# Altium schematic symbol library SparkFun-LED.SCHLIB: 53 symbols
Pins are listed as number, name and electrical type; pins without a type are passive.

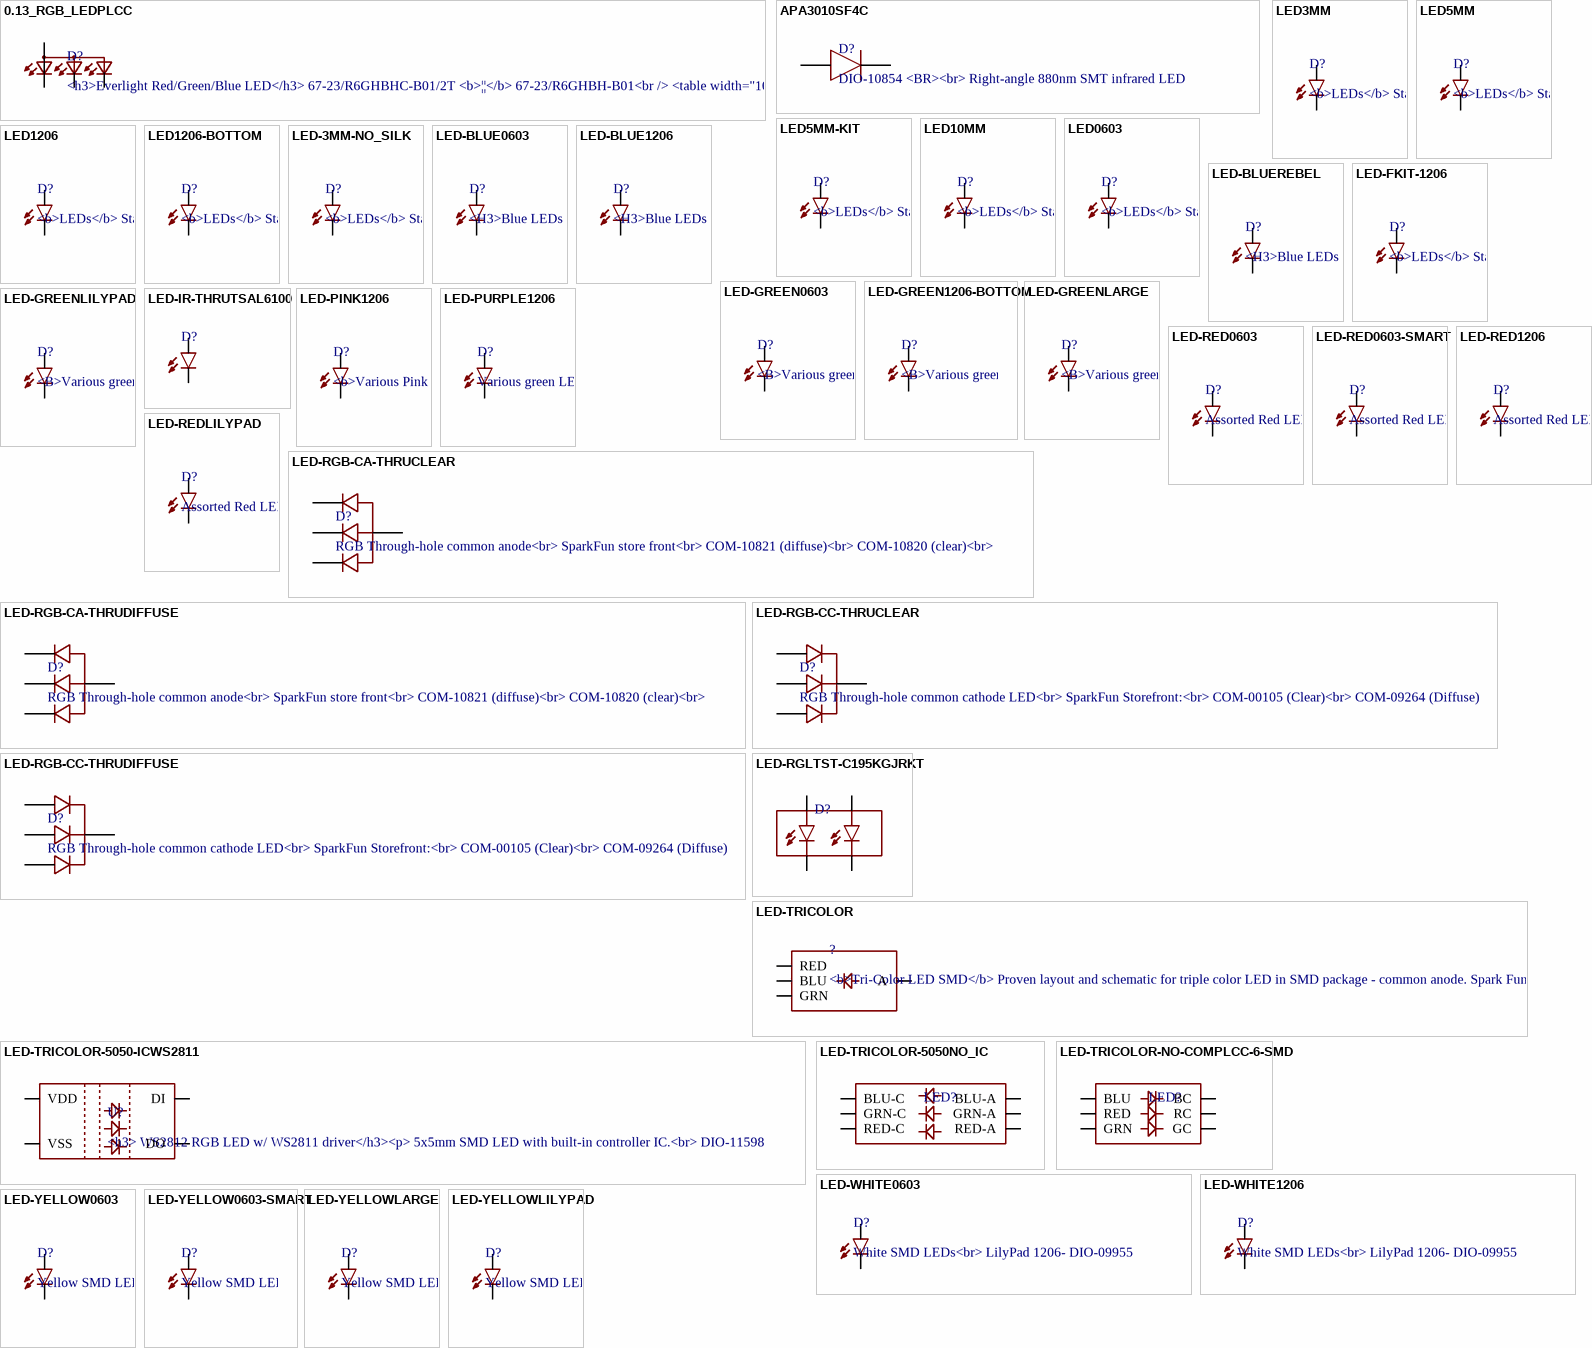
[diagram p0: symbols 0.13_RGB_LEDPLCC to LED-YELLOWLILYPAD]

## 0.13_RGB_LEDPLCC
designator D?, comment <h3>Everlight Red/Green/Blue LED</h3> / 67-23/R6GHBHC-B01/2T <b>||</b> 67-23/R6GHBH-B01<br /> / <table width="100%"> / <tbody> / <tr> / <td width="50%"><strong>Size</strong></td> / <td>3.2*2.8*1.9mm</td> / </tr> / <tr> / <td width="50%"><strong>Mounting Type</strong></td> / <td>SMD Full-Color LED PLCC4</td> / </tr> / <tr> / <td width="50%"><strong>Emitting Color</strong></td> / <td>Red/Green/Blue (620-625/530-535/470-475 nm)</td> / </tr> / <tr> / <td width="50%"><strong>Chip Material</strong></td> / <td>AlGaInP/InGaN/InGaN</td> / </tr> / <tr> / <td width="50%"><strong>Luminous Intensity</strong></td> / <td>57-112/225-450/36-72 mcd</td> / </tr> / <tr> / <td width="50%"><strong>Viewing Angle</strong></td> / <td>120 deg</td> / </tr> / <tr> / <td width="50%"><strong>Lens Type-Color</strong></td> / <td>Water Clear</td> / </tr> / <tr> / <td width="50%"><strong>Forward Voltage</strong></td> / <td>2.0/3.5/3.5 V</td> / </tr> / <tr> / <td width="50%"><strong>Forward Current</strong></td> / <td>10 mA</td> / </tr> / <tr> / <td width="50%"><strong>Maximum Forward Voltage</strong></td> / <td>2.4/3.9/3.9 V</td> / </tr> / <tr> / <td width="50%"><strong>Maximum Forward Current</strong></td> / <td>25/25/25 mA</td> / </tr> / <tr> / <td width="50%"><strong>Min-Max Operating Temperature</strong></td> / <td> -40C to +85C</td> / </tr> / <tr> / <td width="50%"><strong>Factory Pack</strong></td> / <td>2000 pcs-Reel</td> / </tr> / <tr> / <td><strong>RoHS</strong></td> / <td>✓</td> / </tr> / </tbody> / </table>
PROD_ID: DIO-12986
footprint P-LCC-4-3
pins: 1 RED, 2 GREEN, 3 BLUE, 4 ANODE

## APA3010SF4C
designator D?, comment DIO-10854 <BR><br> / Right-angle 880nm SMT infrared LED
PROD_ID: DIO-10854
footprint APA3010SF4C
pins: 1, 2

## LED3MM
designator D?, comment <b>LEDs</b> / Standard schematic elements and footprints for 5mm, 3mm, 1206, and 0603 sized LEDs. 5mm - Spark Fun Electronics SKU : COM-00529 (and others)
footprint LED3MM
pins: A, K C

## LED5MM
designator D?, comment <b>LEDs</b> / Standard schematic elements and footprints for 5mm, 3mm, 1206, and 0603 sized LEDs. 5mm - Spark Fun Electronics SKU : COM-00529 (and others)
footprint LED5MM
pins: A, K C

## LED5MM-KIT
designator D?, comment <b>LEDs</b> / Standard schematic elements and footprints for 5mm, 3mm, 1206, and 0603 sized LEDs. 5mm - Spark Fun Electronics SKU : COM-00529 (and others)
footprint LED5MM-KIT
pins: A, K C

## LED10MM
designator D?, comment <b>LEDs</b> / Standard schematic elements and footprints for 5mm, 3mm, 1206, and 0603 sized LEDs. 5mm - Spark Fun Electronics SKU : COM-00529 (and others)
footprint LED10MM
pins: A, C

## LED0603
designator D?, comment <b>LEDs</b> / Standard schematic elements and footprints for 5mm, 3mm, 1206, and 0603 sized LEDs. 5mm - Spark Fun Electronics SKU : COM-00529 (and others)
footprint LED-0603
pins: A, C

## LED1206
designator D?, comment <b>LEDs</b> / Standard schematic elements and footprints for 5mm, 3mm, 1206, and 0603 sized LEDs. 5mm - Spark Fun Electronics SKU : COM-00529 (and others)
footprint LED-1206
pins: A, C

## LED1206-BOTTOM
designator D?, comment <b>LEDs</b> / Standard schematic elements and footprints for 5mm, 3mm, 1206, and 0603 sized LEDs. 5mm - Spark Fun Electronics SKU : COM-00529 (and others)
footprint LED-1206-BOTTOM
pins: A, C

## LED-3MM-NO_SILK
designator D?, comment <b>LEDs</b> / Standard schematic elements and footprints for 5mm, 3mm, 1206, and 0603 sized LEDs. 5mm - Spark Fun Electronics SKU : COM-00529 (and others)
footprint LED3MM-NS
pins: A, K C

## LED-BLUE0603
designator D?, comment <H3>Blue LEDs for production use</H3><p> / Various blue LEDs stocked by SparkFun production<br> / 0603 - DIO-08575<br> / Rebel - DIO-09553<br> / 1206 - DIO-09911
PROD_ID: DIO-08575
footprint LED-0603
pins: A, C

## LED-BLUE1206
designator D?, comment <H3>Blue LEDs for production use</H3><p> / Various blue LEDs stocked by SparkFun production<br> / 0603 - DIO-08575<br> / Rebel - DIO-09553<br> / 1206 - DIO-09911
PROD_ID: DIO-09911
footprint LED-1206
pins: A, C

## LED-BLUEREBEL
designator D?, comment <H3>Blue LEDs for production use</H3><p> / Various blue LEDs stocked by SparkFun production<br> / 0603 - DIO-08575<br> / Rebel - DIO-09553<br> / 1206 - DIO-09911
PROD_ID: DIO-09553
footprint LUXEON-REBEL
pins: ANODE A, CATHODE C

## LED-FKIT-1206
designator D?, comment <b>LEDs</b> / Standard schematic elements and footprints for 5mm, 3mm, 1206, and 0603 sized LEDs. 5mm - Spark Fun Electronics SKU : COM-00529 (and others)
footprint FKIT-LED-1206
pins: A, C

## LED-GREEN0603
designator D?, comment <B>Various green LEDs<br><br></B> / Green LEDs used in SFE Production<br><br> / 0603- DIO-00821<br> / LARGE- DIO-00862<br> / LILYPAD- DIO-09910<br>
PROD_ID: DIO-00821
footprint LED-0603
pins: A, C

## LED-GREEN1206-BOTTOM
designator D?, comment <B>Various green LEDs<br><br></B> / Green LEDs used in SFE Production<br><br> / 0603- DIO-00821<br> / LARGE- DIO-00862<br> / LILYPAD- DIO-09910<br>
PROD_ID: DIO-11076
footprint LED-1206-BOTTOM
pins: A, C

## LED-GREENLARGE
designator D?, comment <B>Various green LEDs<br><br></B> / Green LEDs used in SFE Production<br><br> / 0603- DIO-00821<br> / LARGE- DIO-00862<br> / LILYPAD- DIO-09910<br>
PROD_ID: DIO-00862
footprint LED-1206
pins: A, C

## LED-GREENLILYPAD
designator D?, comment <B>Various green LEDs<br><br></B> / Green LEDs used in SFE Production<br><br> / 0603- DIO-00821<br> / LARGE- DIO-00862<br> / LILYPAD- DIO-09910<br>
PROD_ID: DIO-09910
footprint LED-1206
pins: A, C

## LED-IR-THRUTSAL6100
designator D?
PROD_ID: DIO-12058
footprint LED5MM
pins: A, K C

## LED-PINK1206
designator D?, comment <b>Various Pink LEDs<br><br></b> / Pink LEDs used in SFE Production<br><br> / LILYPAD- DIO-10415<br>
PROD_ID: DIO-10415
footprint LED-1206
pins: A, C

## LED-PURPLE1206
designator D?, comment Various green LEDs<br> / 0603- DIO-00821<br> / LARGE- DIO-00862<br> / LILYPAD- DIO-09910<br>
PROD_ID: DIO-11140
footprint LED-1206
pins: A, C

## LED-RED0603
designator D?, comment Assorted Red LEDs<br> / LilyPad 1206- DIO-09912<br> / 1206- DIO-00809<br> / 0603- DIO-00819<br> / "SMART" means more efficient and expensive
PROD_ID: DIO-00819
footprint LED-0603
pins: A, C

## LED-RED0603-SMART
designator D?, comment Assorted Red LEDs<br> / LilyPad 1206- DIO-09912<br> / 1206- DIO-00809<br> / 0603- DIO-00819<br> / "SMART" means more efficient and expensive
PROD_ID: DIO-11154
footprint LED-0603
pins: A, C

## LED-RED1206
designator D?, comment Assorted Red LEDs<br> / LilyPad 1206- DIO-09912<br> / 1206- DIO-00809<br> / 0603- DIO-00819<br> / "SMART" means more efficient and expensive
PROD_ID: DIO-00809
footprint LED-1206
pins: A, C

## LED-REDLILYPAD
designator D?, comment Assorted Red LEDs<br> / LilyPad 1206- DIO-09912<br> / 1206- DIO-00809<br> / 0603- DIO-00819<br> / "SMART" means more efficient and expensive
PROD_ID: DIO-09912
footprint LED-1206
pins: A, C

## LED-RGB-CA-THRUCLEAR
designator D?, comment RGB Through-hole common anode<br> / SparkFun store front<br> / COM-10821 (diffuse)<br> / COM-10820 (clear)<br>
PROD_ID: DIO-10631
footprint LED-RGB-THRU
pins: 1 RED_CATHODE, 2 ANODE, 3 GREEN_CATHODE, 4 BLUE_CATHODE

## LED-RGB-CA-THRUDIFFUSE
designator D?, comment RGB Through-hole common anode<br> / SparkFun store front<br> / COM-10821 (diffuse)<br> / COM-10820 (clear)<br>
PROD_ID: DIO-10632
footprint LED-RGB-THRU
pins: 1 RED_CATHODE, 2 ANODE, 3 GREEN_CATHODE, 4 BLUE_CATHODE

## LED-RGB-CC-THRUCLEAR
designator D?, comment RGB Through-hole common cathode LED<br> / SparkFun Storefront:<br> / COM-00105 (Clear)<br> / COM-09264 (Diffuse)
PROD_ID: DIO-08418
footprint LED-RGB-THRU
pins: 1 RED_CATHODE, 2 CATHODE, 3 GREEN_CATHODE, 4 BLUE_CATHODE

## LED-RGB-CC-THRUDIFFUSE
designator D?, comment RGB Through-hole common cathode LED<br> / SparkFun Storefront:<br> / COM-00105 (Clear)<br> / COM-09264 (Diffuse)
PROD_ID: DIO-09434
footprint LED-RGB-THRU
pins: 1 RED_CATHODE, 2 CATHODE, 3 GREEN_CATHODE, 4 BLUE_CATHODE

## LED-RGLTST-C195KGJRKT
designator D?
PROD_ID: DIO-12140
footprint LTST-C195KGJRKT
pins: P$1 GA, P$2 RA, P$3 GC, P$4 RC

## LED-TRICOLOR
designator ?, comment <b>Tri-Color LED SMD</b> / Proven layout and schematic for triple color LED in SMD package - common anode. Spark Fun Electronics SKU : COM-07844
footprint LED-TRICOLOR-SMD
pins: A, B BLU, G GRN, R RED

## LED-TRICOLOR-5050-ICWS2811
designator U?, comment <h3> WS2812 RGB LED w/ WS2811 driver</h3><p> / 5x5mm SMD LED with built-in controller IC.<br> / DIO-11598
PROD_ID: DIO-11598
footprint LED-TRICOLOR-5050-IC
pins: 1 DO, 2 DI, 3 5 VDD, 6 VSS

## LED-TRICOLOR-5050NO_IC
designator LED?
footprint LED-TRICOLOR-5050
pins: 1 GRN-A, 2 RED-A, 3 BLU-A, 4 BLU-C, 5 RED-C, 6 GRN-C

## LED-TRICOLOR-NO-COMPLCC-6-SMD
designator LED?
PROD_ID: DIO-12113
footprint PLCC-6-LED
pins: AB BLU, AG GRN, AR RED, CB BC, CG GC, CR RC

## LED-WHITE0603
designator D?, comment White SMD LEDs<br> / LilyPad 1206- DIO-09955
PROD_ID: DIO-09004
footprint LED-0603
pins: A, C

## LED-WHITE1206
designator D?, comment White SMD LEDs<br> / LilyPad 1206- DIO-09955
PROD_ID: DIO-09955
footprint LED-1206
pins: A, C

## LED-YELLOW0603
designator D?, comment Yellow SMD LEDs<br> / LilyPad 1206- DIO-09909<br> / 0603- DIO-09003<br> / "SMART" means more efficient and expensive
PROD_ID: DIO-09003
footprint LED-0603
pins: A, C

## LED-YELLOW0603-SMART
designator D?, comment Yellow SMD LEDs<br> / LilyPad 1206- DIO-09909<br> / 0603- DIO-09003<br> / "SMART" means more efficient and expensive
PROD_ID: DIO-11230
footprint LED-0603
pins: A, C

## LED-YELLOWLARGE
designator D?, comment Yellow SMD LEDs<br> / LilyPad 1206- DIO-09909<br> / 0603- DIO-09003<br> / "SMART" means more efficient and expensive
PROD_ID: DIO-00820
footprint LED-1206
pins: A, C

## LED-YELLOWLILYPAD
designator D?, comment Yellow SMD LEDs<br> / LilyPad 1206- DIO-09909<br> / 0603- DIO-09003<br> / "SMART" means more efficient and expensive
PROD_ID: DIO-09909
footprint LED-1206
pins: A, C

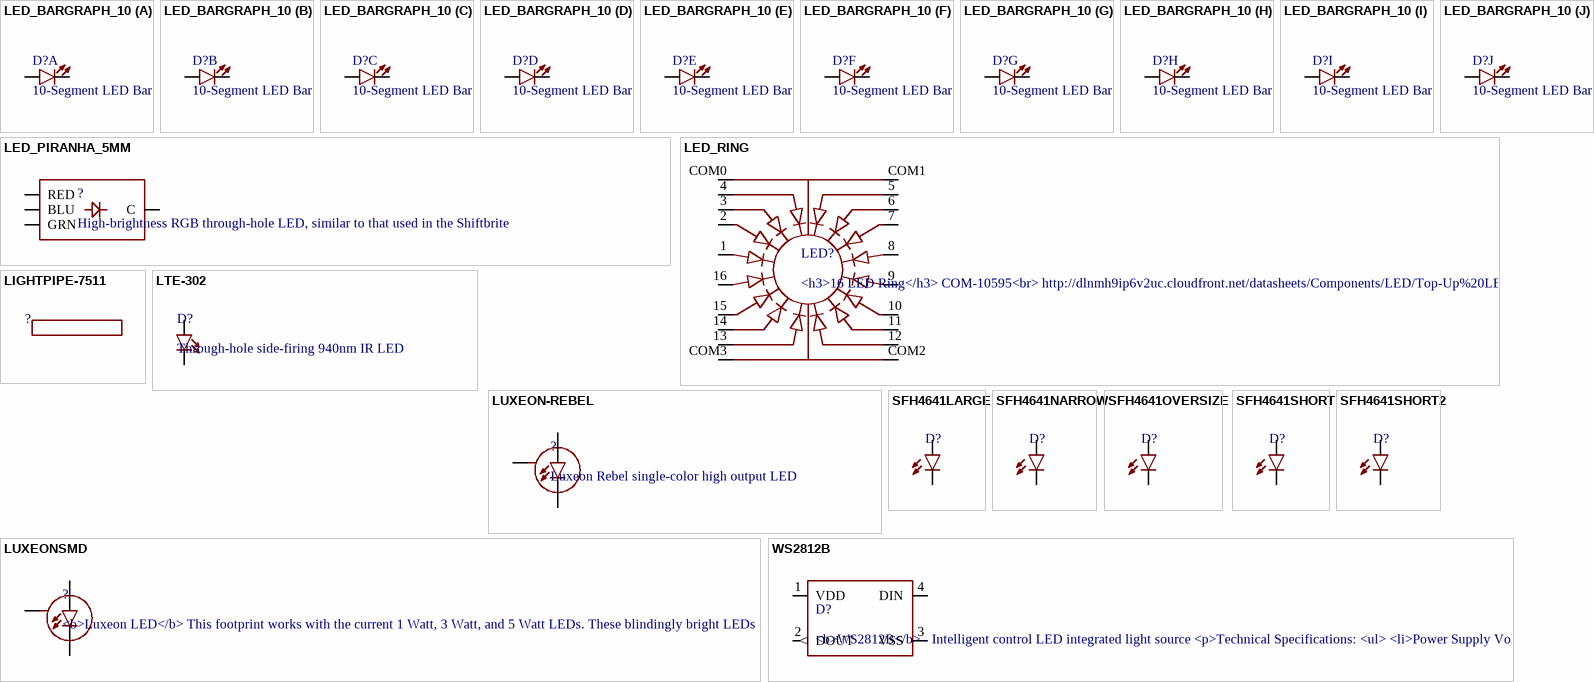
[diagram p1: symbols LED_BARGRAPH_10 to WS2812B]

## LED_BARGRAPH_10
designator D?, comment 10-Segment LED Bar Graph<p> / <p> / SFE part numbers:<p> / COM-09935 (red, Vf = 2.1V, Ifmax = 20mA)<br> / COM-09936 (yellow, Vf = 2.1V, Ifmax = 20mA)<br> / COM-09937 (blue, Vf = 3.4V, Ifmax = 20mA)<br> / COM-09938 (green, Vf = 3.4V, Ifmax = 20mA)<br>
footprint LED_BARGAPH_10
part A pins: 1 A, 20 C
part B pins: 2 A, 19 C
part C pins: 3 A, 18 C
part D pins: 4 A, 17 C
part E pins: 5 A, 16 C
part F pins: 6 A, 15 C
part G pins: 7 A, 14 C
part H pins: 8 A, 13 C
part I pins: 9 A, 12 C
part J pins: 10 A, 11 C

## LED_PIRANHA_5MM
designator ?, comment High-brightness RGB through-hole LED, similar to that used in the Shiftbrite
footprint LED_PIRANHA_5MM
pins: - C, B BLU, G GRN, R RED

## LED_RING
designator LED?, comment <h3>16 LED Ring</h3> / COM-10595<br> / http://dlnmh9ip6v2uc.cloudfront.net/datasheets/Components/LED/Top-Up%20LED%20Ring%20LED-CCL-A.pdf
footprint LED_RING
pins: 1, 2, 3, 4, 5, 6, 7, 8, 9, 10, 11, 12, 13, 14, 15, 16, COM0, COM1, COM2, COM3

## LIGHTPIPE-7511
designator ?
footprint LIGHTPIPE-7511

## LTE-302
designator D?, comment Through-hole side-firing 940nm IR LED
footprint LTE-302
pins: A, C

## LUXEON-REBEL
designator ?, comment Luxeon Rebel single-color high output LED
footprint LUXEON-REBEL
pins: ANODE A, CATHODE C, P$3 S

## LUXEONSMD
designator ?, comment <b>Luxeon LED</b> / This footprint works with the current 1 Watt, 3 Watt, and 5 Watt LEDs. These blindingly bright LEDs generate a lot of heat so the footprint has a large pad under the LED for thermal transfer. Schematic and footprint are proven. Spark Fun Electronics SKU : COM-00603
footprint LUXEON
pins: A, C, S

## SFH4641LARGE
designator D?
PROD_ID: DIO-11994
footprint SFH4641
pins: A, C

## SFH4641NARROW
designator D?
PROD_ID: DIO-11994
footprint SFH4641-NARROW
pins: A, C

## SFH4641OVERSIZE
designator D?
PROD_ID: DIO-11994
footprint SFH4641-OVERSIZE
pins: A, C

## SFH4641SHORT
designator D?
PROD_ID: DIO-11994
footprint SFH4641-SHORT
pins: A, C

## SFH4641SHORT2
designator D?
PROD_ID: DIO-11994
footprint SFH4641-SHORT2
pins: A, C

## WS2812B
designator D?, comment <b>WS2812B</b> - Intelligent control LED integrated light source / <p>Technical Specifications: / <ul> / <li>Power Supply Voltage (VDD): 3.5 to 5.3 V</li> / <li>Input Voltage (VI): -0.5 to VDD+0.5 V</li> / <li>Operating Junction Temperature (Topt): -25°C to +80°C</li> / <li>Storage Temperature Range (Tstg): -55°C to +150°C</li> / </ul> / </p>
PROD_ID: DIO-12503
footprint WS2812B
pins: 1 VDD (power), 2 DOUT (out), 3 VSS (power), 4 DIN